# Altium footprint library Sic_PowerBoard.PcbLib: 17 footprints (part 1 of 2)
Each footprint in its own frame and in the unit in brackets; x right, y up, seen from the top. Pads: shape width x height; smd on the part's side, far side on the other; paste and mask are expansions set on the pad; w line width, h text height; cw(c..) or ccw(c..) is an arc to the next point about the centre after c.
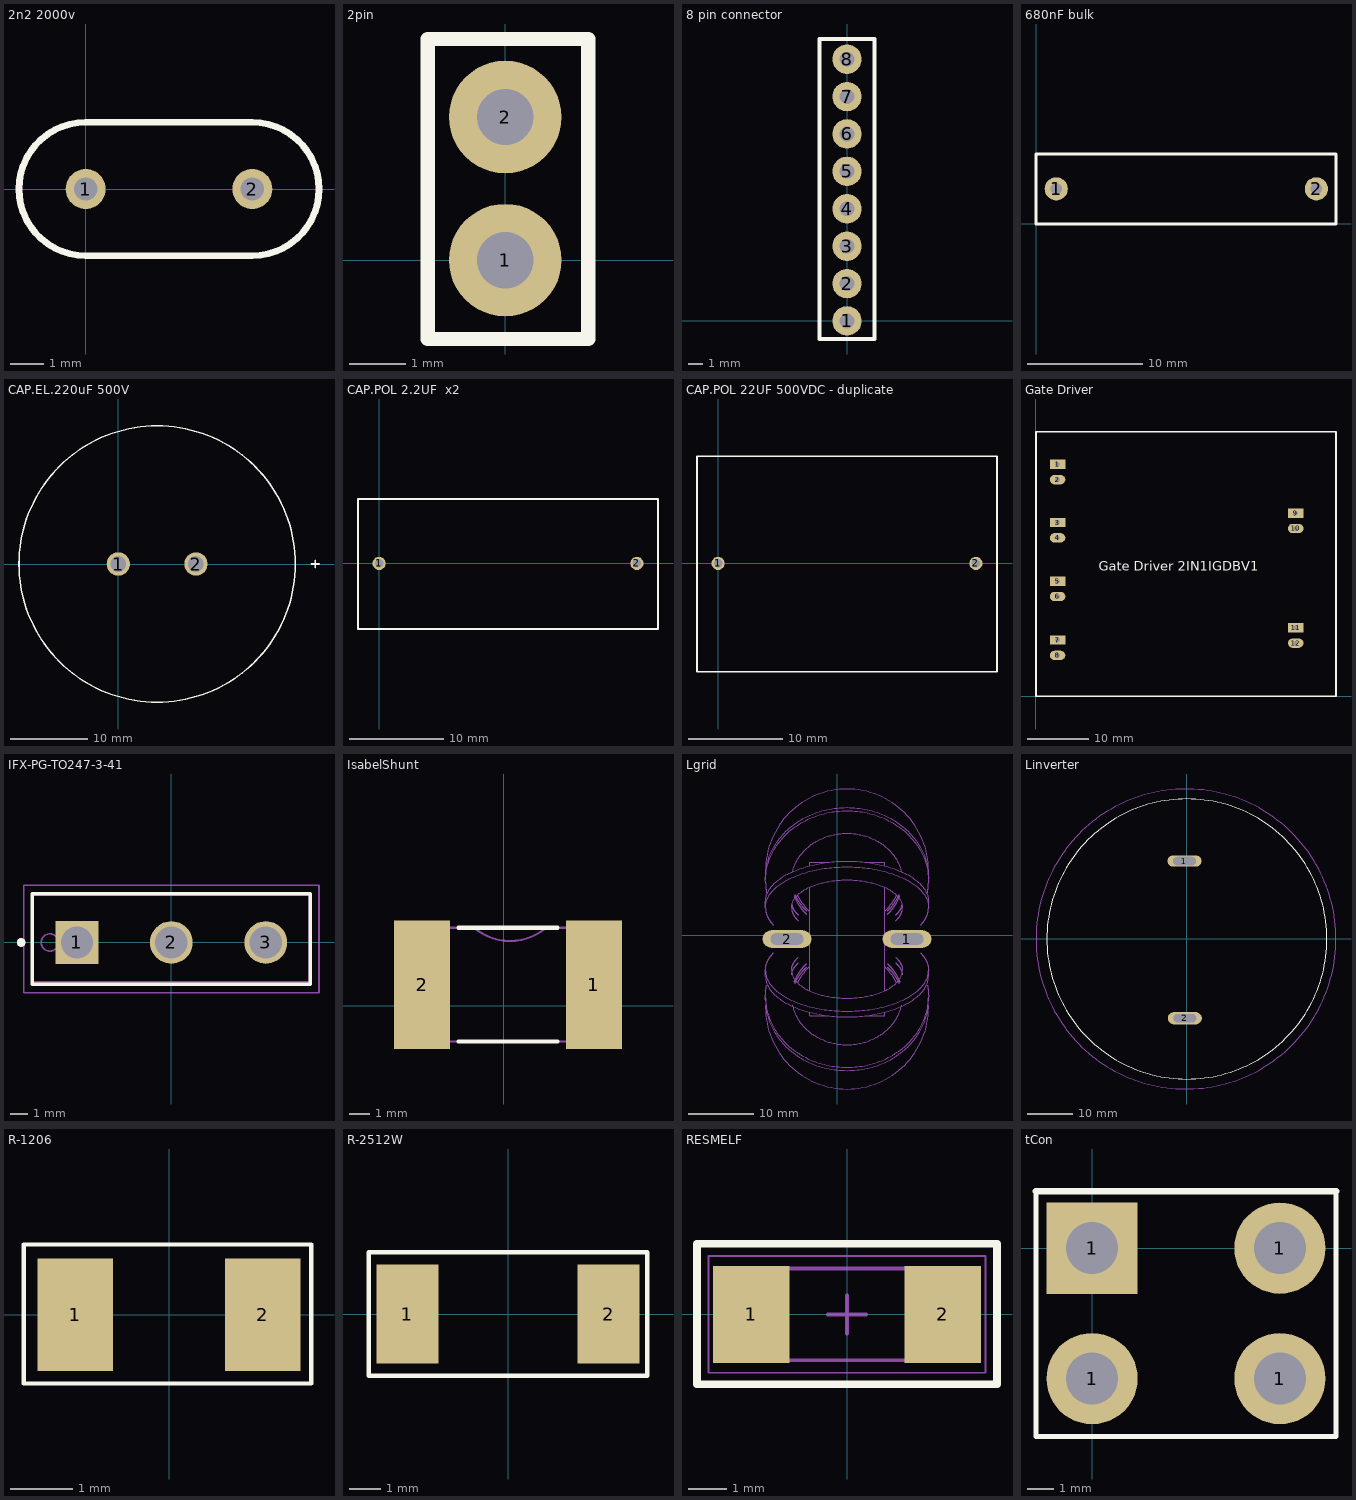
[diagram p0: the footprints below, top view; thin cyan lines are the x and y axes]

## 2n2 2000v [mm]
pads (2):
  round 1.2 hole 0.7: 1(0,0) 2(5,0)
Top Overlay:
  lines w0.2: 0,-2 cw(c0,0) 0,2 5,2 cw(c5,0) 5,-2 0,-2
3D body "User Library-TDK_CAP_CK45_.STEP": height 12.5, standoff -5, extent -3.046,-2.475 7.947,2.525

## 2pin [mm]
pads (2):
  round 2 hole 1: 1(0,0) 2(0,2.54)
Top Overlay:
  lines w0.254: -1.375,-1.4 1.475,-1.4 1.475,3.925 -1.375,3.925 -1.375,-1.4

## 8 pin connector [mm]
pads (8):
  round 2 hole 1: 1(0,0) 2(0,2.54) 3(0,5.08) 4(0,7.62) 5(0,10.16) 6(0,12.7) 7(0,15.24) 8(0,17.78)
Top Overlay:
  lines w0.254: -1.875,-1.225 -1.875,19.15 1.875,19.15 1.875,-1.225 -1.875,-1.225

## 680nF bulk [mm]
pads (2):
  round 2 hole 1: 1(1.75,3) 2(24.25,3)
Top Overlay:
  lines w0.254: 0,-0.025 0,6 25.95,6 25.95,-0.025 0,-0.025
3D body "WIMA_FILM_CAPACITOR_RADIAL_26.5x6.0x15.0_P22.5.step": height 15, standoff -3.5, extent -0.35,-0.05 26.15,5.95

## CAP.EL.220uF 500V [mm]
pads (2):
  round 3 hole 2: 1(0,0) 2(10,0)
Top Overlay:
  circle w0.2: c5,0 r17.8
  lines w0.2: 24.832,0 25.848,0 ; 25.34,-0.508 25.34,0.508
3D body "User Library-part1-165.STEP": height 40.03, standoff -3.42, extent -13.025,-17.575 21.993,17.425

## CAP.POL 2.2UF  x2 [mm]
pads (2):
  round 1.4 hole 0.9: 1(0,0) 2(27.5,0)
Top Overlay:
  lines w0.2: -2.25,-6.985 -2.25,-5.807 -2.25,5.693 -2.25,6.858 29.75,6.858 29.75,-6.985 -2.25,-6.985
3D body "c-rect_p27-5_l30_w13_h23.stp": height 23.01, standoff -3.99, extent -1.225,-6.45 28.775,6.55

## CAP.POL 22UF 500VDC - duplicate [mm]
pads (2):
  round 1.4 hole 0.9: 1(0,0) 2(27.5,0)
Top Overlay:
  lines w0.2: -2.25,-11.557 -2.25,-5.807 -2.25,5.693 -2.25,11.43 29.75,11.43 29.75,-11.557 -2.25,-11.557
3D body "c-rect_p27-5_l30_w13_h23.stp": height 23.01, standoff -3.99, extent -1.225,-6.45 28.775,6.55

## Gate Driver [mm]
pads (12):
  rect 2.524x1.524 hole 0.762 square: 1(3.525,37.9) 3(3.525,28.4) 5(3.525,18.825) 7(3.525,9.2) 9(42.425,29.925) 11(42.425,11.2)
  oval 2.524x1.524 hole 0.762 square: 2(3.525,35.4) 4(3.525,25.9) 6(3.525,16.325) 8(3.525,6.7) 10(42.425,27.425) 12(42.425,8.7)
Top Overlay:
  lines w0.254: 0,0 49,0 49,43.25 0,43.25 0,0
  text "Gate Driver 2IN1IGDBV1" at 10.25,20.5 h1.52
3D body "Gate Driver Board.step": height 14.34, standoff -5.89, extent 0,0 49.1,43.25

## IFX-PG-TO247-3-41 [mm] "TO247-Diode; 3 pin, 5.44 mm pitch, 15.90 mm L X 5.00 mm W X 26.00 mm H body"
height 26
pads (3):
  rect 2.46x2.46 hole 1.86 paste+0 mask+0: 1(-5.44,0)
  round 2.46 hole 1.86 paste+0 mask+0: 2(0,0) 3(5.44,0)
Top Overlay:
  circle w0.25: c-8.65,0 r0.125
  lines w0.2: -8,-2.4 -8,2.8 8,2.8 8,-2.4 -8,-2.4
Mechanical 3:
  text ".DESIGNATOR" at 0,0 h1.2
Mechanical 13:
  circle w0.1: c-7,0 r0.5
  lines w0.1: -7.95,-2.282 7.95,-2.282 7.95,2.718 -7.95,2.718 -7.95,-2.282
Mechanical 15:
  lines w0.1: -0.5,0 0.5,0 ; 0,-0.5 0,0.5 ; -8.5,-2.9 -8.5,3.3 8.5,3.3 8.5,-2.9 -8.5,-2.9
3D body "AIDW10S65C5.STEP": height 26, standoff -15.9, extent -7.95,-2.232 7.95,2.768

## IsabelShunt [mm]
pads (2):
  rect 2.7x6.2 smd: 1(4.359,1.017) 2(-3.941,1.017)
Top Overlay:
  lines w0.2: -2.191,-1.733 2.609,-1.733 ; -2.191,3.767 2.609,3.767
Mechanical 5:
  lines w0.1: -4.941,-1.733 -4.941,3.767 -1.441,3.767 ccw(c0.309,5.826) 2.059,3.767 5.359,3.767 5.359,-1.733 -4.941,-1.733
3D body "3921.stp": height 1.05, standoff 0, extent -4.941,-1.733 5.359,3.767

## Lgrid [mm]
pads (2):
  oval 7.5x2.7 hole 1.8 slot 5 at 0 deg: 1(10.687,-0.59) 2(-7.713,-0.59)
Mechanical 5:
  drawing of 3628 lines, arcs and shapes, not listed
3D body "750343811.stp": height 48.01, standoff 0.01, extent -11.28,-23.59 13.72,22.41

## Linverter [mm]
pads (2):
  oval 7.5x2.5 hole 1.8 slot 5 at 0 deg: 1(-0.525,17.15)
  oval 7.5x2.7 hole 1.8 slot 5 at 0 deg: 2(-0.45,-17.45)
Top Overlay:
  circle w0.254: c0,0 r30.826
Assembly Top:
  circle w0.1: c-0.193,-0.007 r33.02
3D body "750343810.stp": height 43.89, standoff 0.01, extent -33.295,-33.265 32.745,32.765

## R-1206 [mm]
pads (2):
  rect 1.2x1.8 smd: 1(-1.5,0) 2(1.5,0)
Top Overlay:
  lines w0.07: -0.275,-1.1 2.275,-1.1 ; -0.275,-1.1 -2.325,-1.1 -2.325,0.625 -2.325,1.125 -1.175,1.125 1.125,1.125 2.275,1.125 2.275,-1.1 ; -0.275,-1.1 2.275,-1.1
3D body "User Library-CR3216-1206.step": height 0.56, standoff -0.04, extent -1.6,-0.775 1.6,0.825

## R-2512W [mm] "resistor 2512 wave soldering"
pads (2):
  rect 2x3.2 smd: 1(-3.25,0) 2(3.25,0)
Top Overlay:
  lines w0.152: -4.5,-2 -4.5,2 2.15,2 4.5,2 4.5,-2 2.15,-2 -4.5,-2
3D body "res2512.stp": height 0.55, standoff 0, extent -3.15,-1.55 3.15,1.55

## RESMELF [mm] "MELF Resistor, 2-Leads, Body 5.85x2.30mm, IPC Medium Density"
height 2.4
pads (2):
  rect 2x2.55 smd: 1(-2.5,0) 2(2.5,0)
Top Overlay:
  lines w0.2: -3.925,-1.825 -3.925,1.85 -1.572,1.85 -0.191,1.85 2.082,1.85 ; -3.9,-1.825 -1.2,-1.825 3.925,-1.825 3.925,1.85 ; 2.082,1.85 3.925,1.85 ; 2.082,1.85 3.925,1.85
Courtyard Top:
  lines w0.05: -3.625,-1.525 -3.625,1.525 3.625,1.525 3.625,-1.525 -3.625,-1.525
  lines w0.1: -0.5,0 0.5,0 ; 0,-0.5 0,0.5
Assembly Top:
  lines w0.1: -2.95,-1.2 -2.95,1.2 2.95,1.2 2.95,-1.2 -2.95,-1.2
3D body: height 2.39, standoff 0, extent -2.95,-1.2 -2.4,1.195
3D body: height 2.39, standoff 0, extent 2.4,-1.2 2.95,1.195
3D body "User Library-MMB0207_102K.STEP": height 2.4, standoff 0, extent -2.9,-1.2 2.9,1.2

## tCon [mm]
pads (4):
  round 3.5 hole 2: 1(0,-5) 1(7.2,-5) 1(7.2,0)
  rect 3.5x3.5 hole 2: 1(0,0)
Top Overlay:
  lines w0.2: -2.15,2.175 -2.15,-7.225 -0.05,-7.225 5.75,-7.225 7.925,-7.225 9.35,-7.225 9.35,2.175
  lines w0.254: -2.15,2.175 9.35,2.175